# EAGLE library part PARALLAX-MICROCONTROLLER-P8X32AD40 (library Module_ICs)
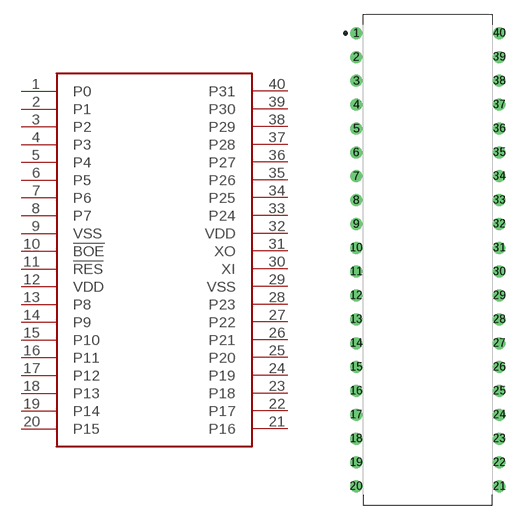
[diagram p63: symbol with the pads of DIP1524W46P254L5232H483Q40B; footprint DIP1524W46P254L5232H483Q40B]

Designator prefix U

## PARALLAX-MICROCONTROLLER-P8X32AD40  [DIP1524W46P254L5232H483Q40B]
1  P0
2  P1
3  P2
4  P3
5  P4
6  P5
7  P6
8  P7
9  VSS
10  !BOE
11  !RES
12  VDD
13  P8
14  P9
15  P10
16  P11
17  P12
18  P13
19  P14
20  P15
21  P16
22  P17
23  P18
24  P19
25  P20
26  P21
27  P22
28  P23
29  VSS
30  XI
31  XO
32  VDD
33  P24
34  P25
35  P26
36  P27
37  P28
38  P29
39  P30
40  P31

## Footprint DIP1524W46P254L5232H483Q40B (pad centres in mm)
40-DIP, 2.54 mm (0.10 in) pitch, 15.24 mm (0.60 in) span, 52.32 X 13.72 X 4.83 mm body 40-pin DIP package with 2.54 mm (0.10 in) pitch, 15.24 mm (0.60 in) span with body size 52.32 X 13.72 X 4.83 mm
drill 0.675 pad 1.275: 1 -7.62,24.13; 2 -7.62,21.59; 3 -7.62,19.05; 4 -7.62,16.51; 5 -7.62,13.97; 6 -7.62,11.43; 7 -7.62,8.89; 8 -7.62,6.35; 9 -7.62,3.81; 10 -7.62,1.27; 11 -7.62,-1.27; 12 -7.62,-3.81; 13 -7.62,-6.35; 14 -7.62,-8.89; 15 -7.62,-11.43; 16 -7.62,-13.97; 17 -7.62,-16.51; 18 -7.62,-19.05; 19 -7.62,-21.59; 20 -7.62,-24.13; 21 7.62,-24.13; 22 7.62,-21.59; 23 7.62,-19.05; 24 7.62,-16.51; 25 7.62,-13.97; 26 7.62,-11.43; 27 7.62,-8.89; 28 7.62,-6.35; 29 7.62,-3.81; 30 7.62,-1.27; 31 7.62,1.27; 32 7.62,3.81; 33 7.62,6.35; 34 7.62,8.89; 35 7.62,11.43; 36 7.62,13.97; 37 7.62,16.51; 38 7.62,19.05; 39 7.62,21.59; 40 7.62,24.13